# EAGLE library part PCAN_USB_STAMP_MODULE (library Bauteile)
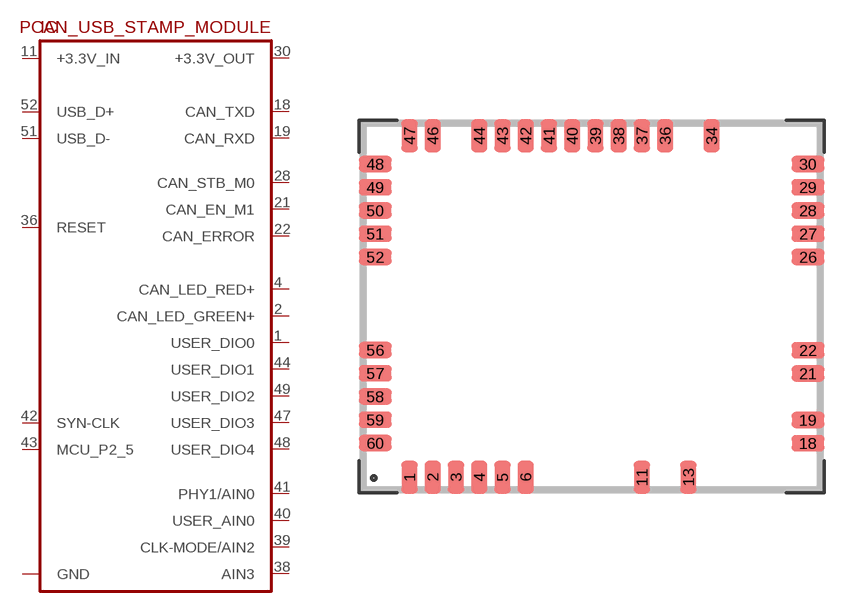
[diagram p218: symbol with the pads of PCAN_USB_STAMP_MODULE; footprint PCAN_USB_STAMP_MODULE]

Designator prefix IC

## PCAN_USB_STAMP_MODULE (ID: IPEH-004025; VALUE: CAN-USB)  [PCAN_USB_STAMP_MODULE]
1  USER_DIO0
2  CAN_LED_GREEN+
4  CAN_LED_RED+
11  +3.3V_IN
13  GND
18  CAN_TXD
19  CAN_RXD
21  CAN_EN_M1
22  CAN_ERROR
28  CAN_STB_M0
29  GND
30  +3.3V_OUT
34  GND
36  RESET
38  AIN3
39  CLK-MODE/AIN2
40  USER_AIN0
41  PHY1/AIN0
42  SYN-CLK
43  MCU_P2_5
44  USER_DIO1
47  USER_DIO3
48  USER_DIO4
49  USER_DIO2
50  GND
51  USB_D-
52  USB_D+

## Footprint PCAN_USB_STAMP_MODULE (pad centres in mm)
smd 0.9 x 1.8: 1 -9.96,-9.32; 2 -8.69,-9.32; 3 -7.42,-9.32; 4 -6.15,-9.32; 5 -4.88,-9.32; 6 -3.61,-9.32; 11 2.74,-9.32; 13 5.28,-9.32; 34 6.55,9.32; 36 4.01,9.32; 37 2.74,9.32; 38 1.47,9.32; 39 0.2,9.32; 40 -1.07,9.32; 41 -2.34,9.32; 42 -3.61,9.32; 43 -4.88,9.32; 44 -6.15,9.32; 46 -8.69,9.32; 47 -9.96,9.32
smd 1.8 x 0.9: 18 11.82,-7.47; 19 11.82,-6.2; 21 11.82,-3.66; 22 11.82,-2.39; 26 11.82,2.7; 27 11.82,3.97; 28 11.82,5.24; 29 11.82,6.51; 30 11.82,7.78; 48 -11.82,7.78; 49 -11.82,6.51; 50 -11.82,5.24; 51 -11.82,3.97; 52 -11.82,2.7; 56 -11.82,-2.38; 57 -11.82,-3.65; 58 -11.82,-4.92; 59 -11.82,-6.19; 60 -11.82,-7.46